# Altium footprint library ftdi.PcbLib: 2 footprints
Each footprint in its own frame and in the unit in brackets; x right, y up, seen from the top. Pads: shape width x height; smd on the part's side, far side on the other; paste and mask are expansions set on the pad; w line width, h text height; cw(c..) or ccw(c..) is an arc to the next point about the centre after c.
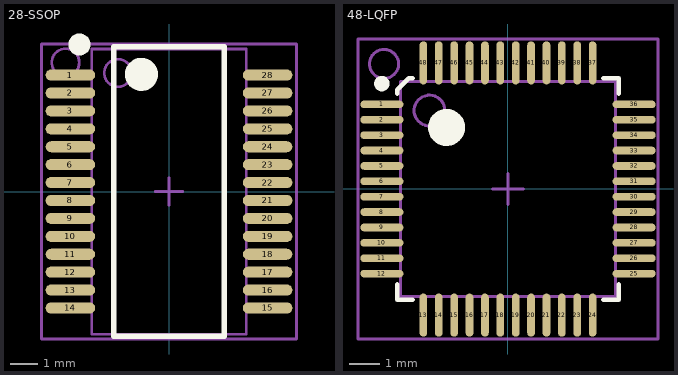
[diagram p0: the footprints below, top view; thin cyan lines are the x and y axes]

## 28-SSOP [mm] "SOP, 28-Leads, Body 10.5x5.6mm (max), Pitch 0.65mm, IPC Medium Density"
height 2
pads (28):
  oval 1.8x0.4 smd: 1(-3.577,4.225) 2(-3.577,3.575) 3(-3.577,2.925) 4(-3.577,2.275) 5(-3.577,1.625) 6(-3.577,0.975) 7(-3.577,0.325) 8(-3.577,-0.325) 9(-3.577,-0.975) 10(-3.577,-1.625) 11(-3.577,-2.275) 12(-3.577,-2.925) 13(-3.577,-3.575) 14(-3.577,-4.225) 15(3.577,-4.225) 16(3.577,-3.575) 17(3.577,-2.925) 18(3.577,-2.275) 19(3.577,-1.625) 20(3.577,-0.975) 21(3.577,-0.325) 22(3.577,0.325) 23(3.577,0.975) 24(3.577,1.625) 25(3.577,2.275) 26(3.577,2.925) 27(3.577,3.575) 28(3.577,4.225)
Top Overlay:
  circle w0.6: c-1,4.25 r0.3
  circle w0.4: c-3.248,5.334 r0.2
  lines w0.2: -2,-5.25 2,-5.25 2,5.25 -2,5.25 -2,-5.25
Mechanical 13:
  circle w0.1: c-1.85,4.3 r0.5
  lines w0.1: -0.5,0 0.5,0 ; 0,-0.5 0,0.5 ; -2.8,-5.175 2.8,-5.175 2.8,5.175 -2.8,5.175 -2.8,-5.175
Mechanical 15:
  circle w0.1: c-3.755,4.681 r0.5
  lines w0.1: -4.625,-5.35 4.625,-5.35 4.625,5.35 -4.625,5.35 -4.625,-5.35
  text ".Designator" at -2.286,-0.381 h0.5
3D body: height 2.15, standoff 0, extent -3.878,-5.165 3.878,5.165

## 48-LQFP [mm] "TSQFP, 48-Leads, Body 9.0x9.0mm (max), Pitch 0.50mm, IPC High Density"
height 1.6
pads (48):
  oval 1.4x0.25 smd: 1(-4.1,2.75) 2(-4.1,2.25) 3(-4.1,1.75) 4(-4.1,1.25) 5(-4.1,0.75) 6(-4.1,0.25) 7(-4.1,-0.25) 8(-4.1,-0.75) 9(-4.1,-1.25) 10(-4.1,-1.75) 11(-4.1,-2.25) 12(-4.1,-2.75) 25(4.1,-2.75) 26(4.1,-2.25) 27(4.1,-1.75) 28(4.1,-1.25) 29(4.1,-0.75) 30(4.1,-0.25) 31(4.1,0.25) 32(4.1,0.75) 33(4.1,1.25) 34(4.1,1.75) 35(4.1,2.25) 36(4.1,2.75)
  oval 0.25x1.4 smd: 13(-2.75,-4.1) 14(-2.25,-4.1) 15(-1.75,-4.1) 16(-1.25,-4.1) 17(-0.75,-4.1) 18(-0.25,-4.1) 19(0.25,-4.1) 20(0.75,-4.1) 21(1.25,-4.1) 22(1.75,-4.1) 23(2.25,-4.1) 24(2.75,-4.1) 37(2.75,4.1) 38(2.25,4.1) 39(1.75,4.1) 40(1.25,4.1) 41(0.75,4.1) 42(0.25,4.1) 43(-0.25,4.1) 44(-0.75,4.1) 45(-1.25,4.1) 46(-1.75,4.1) 47(-2.25,4.1) 48(-2.75,4.1)
Top Overlay:
  circle w0.6: c-2,2 r0.3
  circle w0.25: c-4.1,3.425 r0.125
  lines w0.16: -3.6,-3.1 -3.6,-3.6 -3.1,-3.6 ; -3.6,3.1 -3.6,3.225 -3.225,3.6 -3.1,3.6 ; 3.1,-3.6 3.6,-3.6 3.6,-3.1 ; 3.1,3.6 3.6,3.6 3.6,3.1
Mechanical 13:
  circle w0.1: c-2.55,2.55 r0.5
  lines w0.1: -0.5,0 0.5,0 ; 0,-0.5 0,0.5 ; -3.5,-3.5 3.5,-3.5 3.5,3.5 -3.5,3.5 -3.5,-3.5
Mechanical 15:
  circle w0.1: c-4.029,4.064 r0.473
  lines w0.1: -4.875,-4.875 4.875,-4.875 4.875,4.875 -4.875,4.875 -4.875,-4.875
  text ".Designator" at -2.667,-1.016 h0.5
3D body: height 1.56, standoff 0, extent -4.5,-4.5 4.5,4.5